# EAGLE library part MINI_PCIE_PLAIN (library sf-keyglove)
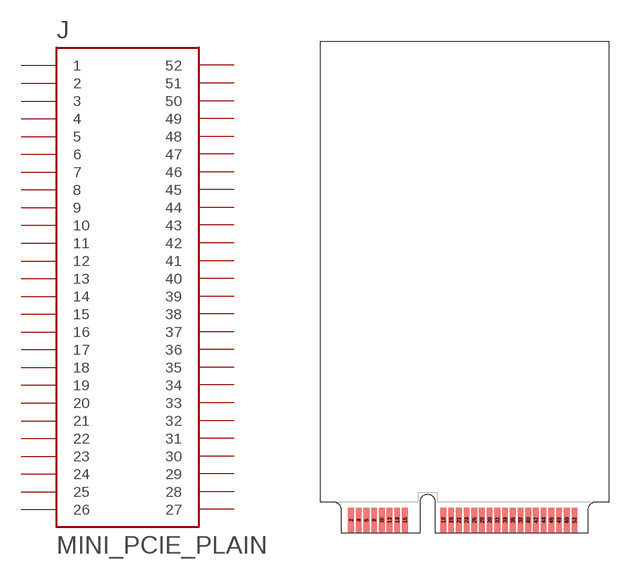
[diagram p0: symbol with the pads of MINI_PCIE_PLAIN; footprint MINI_PCIE_PLAIN]

Designator prefix J

## MINI_PCIE_PLAIN  [MINI_PCIE_PLAIN]
1  1
2  2
3  3
4  4
5  5
6  6
7  7
8  8
9  9
10  10
11  11
12  12
13  13
14  14
15  15
16  16
17  17
18  18
19  19
20  20
21  21
22  22
23  23
24  24
25  25
26  26
27  27
28  28
29  29
30  30
31  31
32  32
33  33
34  34
35  35
36  36
37  37
38  38
39  39
40  40
41  41
42  42
43  43
44  44
45  45
46  46
47  47
48  48
49  49
50  50
51  51
52  52

## Footprint MINI_PCIE_PLAIN (pad centres in mm)
smd 0.6 x 2.55: 1 0,0; 3 0.8,0; 5 1.6,0; 7 2.4,0; 9 3.2,0; 11 4,0; 13 4.8,0; 15 5.6,0; 17 9.6,0; 19 10.4,0; 21 11.2,0; 23 12,0; 25 12.8,0; 27 13.6,0; 29 14.4,0; 31 15.2,0; 33 16,0; 35 16.8,0; 37 17.6,0; 39 18.4,0; 41 19.2,0; 43 20,0; 45 20.8,0; 47 21.6,0; 49 22.4,0; 51 23.2,0
smd 0.6 x 2.55 bottom: 2 0,0; 4 0.8,0; 6 1.6,0; 8 2.4,0; 10 3.2,0; 12 4,0; 14 4.8,0; 16 5.6,0; 18 9.6,0; 20 10.4,0; 22 11.2,0; 24 12,0; 26 12.8,0; 28 13.6,0; 30 14.4,0; 32 15.2,0; 34 16,0; 36 16.8,0; 38 17.6,0; 40 18.4,0; 42 19.2,0; 44 20,0; 46 20.8,0; 48 21.6,0; 50 22.4,0; 52 23.2,0